# EAGLE library part PIN_3X7 (library pinhead_3row)
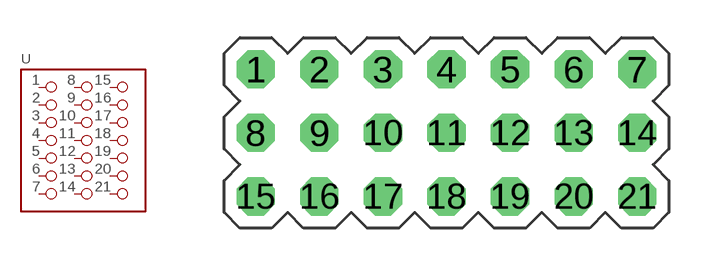
[diagram p2: symbol with the pads of PIN_3X7; footprint PIN_3X7]

Designator prefix -

## PIN_3X7  [PIN_3X7]
1  1
2  2
3  3
4  4
5  5
6  6
7  7
8  8
9  9
10  10
11  11
12  12
13  13
14  14
15  15
16  16
17  17
18  18
19  19
20  20
21  21

## Footprint PIN_3X7 (pad centres in mm)
drill 1.016 octagon: 1 1.27,-1.27; 2 3.81,-1.27; 3 6.35,-1.27; 4 8.89,-1.27; 5 11.43,-1.27; 6 13.97,-1.27; 7 16.51,-1.27; 8 1.27,-3.81; 9 3.81,-3.81; 10 6.35,-3.81; 11 8.89,-3.81; 12 11.43,-3.81; 13 13.97,-3.81; 14 16.51,-3.81; 15 1.27,-6.35; 16 3.81,-6.35; 17 6.35,-6.35; 18 8.89,-6.35; 19 11.43,-6.35; 20 13.97,-6.35; 21 16.51,-6.35